# Altium integrated library MCU2.IntLib: 40 symbols
Pins are listed as number, name and electrical type; pins without a type are passive.

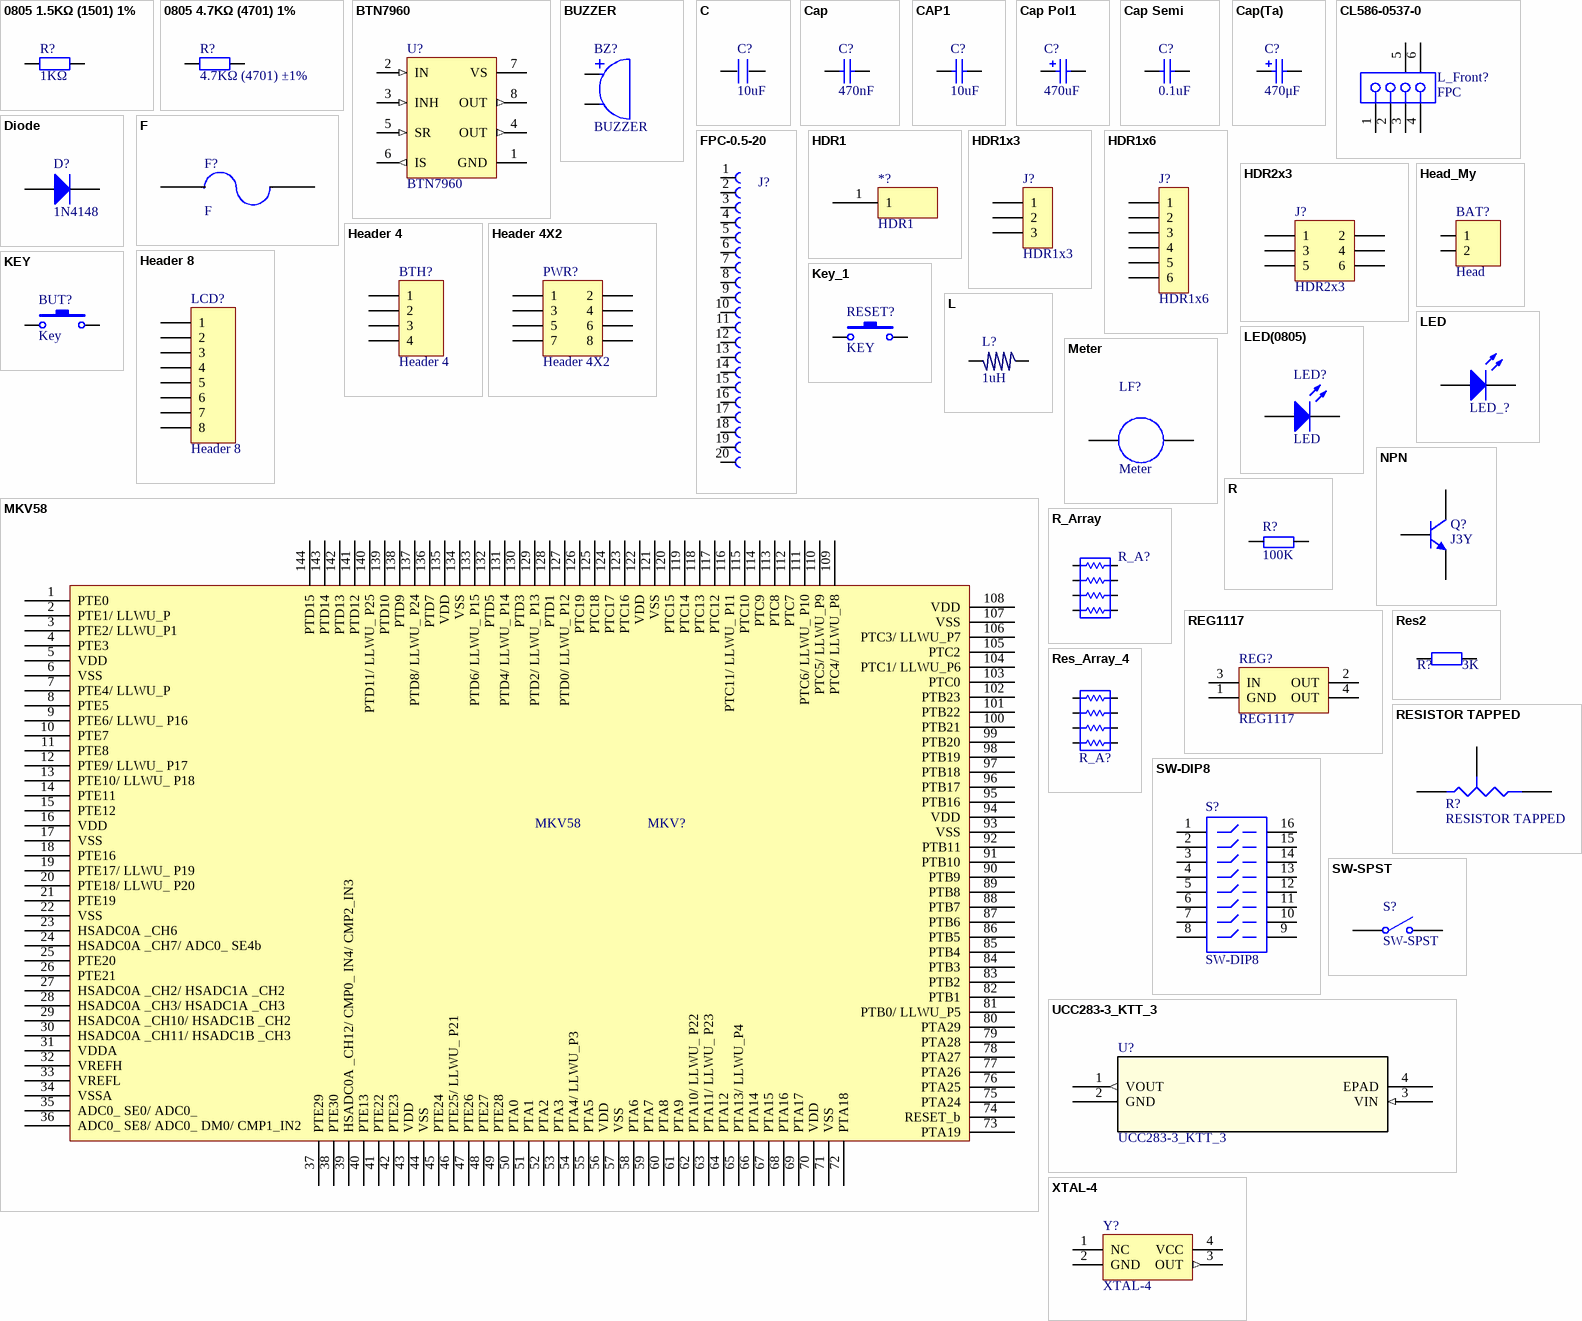
[diagram p0: symbols 0805 1.5KΩ (1501) 1% to XTAL-4]

## 0805 1.5KΩ (1501) 1%
designator R?, comment 1KΩ
贴片电阻; ComponentLink1Description: 供应商链接; ComponentLink1URL: http://www.szlcsc.com/product/details_4717.html; Package: 0805; Supplier: LC; SuppliersPartNumber: C4310
footprint 0805_R
pins: 1, 2

## 0805 4.7KΩ (4701) 1%
designator R?, comment 4.7KΩ (4701) ±1%
贴片电阻; ComponentLink1Description: 供应商链接; ComponentLink1URL: http://www.szlcsc.com/product/details_18361.html; Package: 0805; Supplier: LC; SuppliersPartNumber: C17673
footprint 0805_R
pins: 1, 2

## BTN7960
designator U?
footprint TO-263-7
pins: 1 GND (power), 2 IN (in), 3 INH (in), 4 OUT (out), 5 SR (in), 6 IS (out), 7 VS (power), 8 OUT (out)

## BUZZER
designator BZ?
footprint BUZZER-D12.0X8.5-6.5-0.8 (Buzzer)
pins: 1, 2

## C
designator C?, comment 10uF
footprint 0805_C
footprint CC5.08 (CAP0.1)
footprint CC4.572 (222/332)
footprint 1206
footprint 1210
footprint CC6.096
footprint CC7.62
footprint CVAR (4MM*6.6MM)
footprint C 5.08    7.5mm x4.5mm
footprint C  P5-7-10  W=4mm (P5/P7/P10      W=4mm)
footprint C  P5-7-10  W=6mm (P5/P7/P10      W=6mm)
footprint C  P5-7-10  W=9mm (P5/P7/P10      W=9mm)
footprint 0402
footprint 1218
footprint 2010
footprint 2512
footprint 0603P
pins: 1, 2

## Cap
designator C?  value 470nF  (hidden comment: Cap)
Capacitor; Published: 8-Jun-2000; LatestRevisionDate: 17-Jul-2002; LatestRevisionNote: Re-released for DXP Platform.; PackageReference: RAD-0.3; Publisher: Altium Limited
simulation model CAP (Capacitor)
signal-integrity model Cap
footprint 0805_C
pins: 1, 2

## CAP1
designator C?, comment value 10uF  (hidden comment: 0.1uf)
footprint 0805
pins: 1, 2

## Cap Pol1
designator C?, comment 470uF
Polarized Capacitor (Radial); Published: 8-Jun-2000; LatestRevisionDate: 17-Jul-2002; LatestRevisionNote: Re-released for DXP Platform.; PackageReference: RB7.6-15; Publisher: Altium Limited; PackageDescription: Polarized Capacitor (Radial); 2 Leads
footprint SMD-EC-F8
pins: 1, 2
1 alternate drawing of the same symbol

## Cap Semi
designator C?  value 0.1uF  (hidden comment: Cap Semi)
Capacitor (Semiconductor SIM Model); Published: 8-Jun-2000; Revision: July-2002: Re-released for DXP Platform.; Publisher: Altium Limited
footprint CC3216-1206 (Chip Capacitor; Body 3.2 x 1.6 mm (LxW typ))
simulation model CAP (Semiconductor Capacitor)
signal-integrity model Cap Semi
footprint CC1310-0504
footprint 0805
footprint CC1005-0402
footprint CC3225-1210
pins: 1, 2

## Cap(Ta)
designator C?, comment 470μF
footprint CASE C6032
footprint Case B3528
footprint CASE C6032
pins: 1, 2

## CL586-0537-0
designator L_Front?, comment FPC
FH12 Series, "Flip-Lock" SMT/ZIF Connector - 1.0mm Spaced Bottom Eccentric Contact; Positions: 4; ContactMaterial: Phosphor Bronze; Current: 0.5A; PCB_Layout: Complies with manufacturer's recommendation.; Note: Pad dimensions follow nominal values, Suitable for Wave Soldering, Adjust for Re-flow.; Published: 17-Jul-2002; DatasheetDocument: 13-Nov-2000; PackageDocument: 13-Nov-2000; PackageReference: FH12-10(4)SA-1SH; Publisher: Altium Limited; ComponentLink1Description: Manufacturer Link; ComponentLink1URL: http://www.hiroseusa.com/; ComponentLink2Description: Datasheet; ComponentLink2URL: http://www.hirose.co.jp/cataloge_hp/e58605370.pdf
footprint FH12-10(4)SA-1SH
signal-integrity model FH12
pins: 1, 2, 3, 4, 5 MH1, 6 MH2

## Diode
designator D?, comment 1N4148
Published: 8-Jun-2000; LatestRevisionDate: 17-Jul-2002; LatestRevisionNote: Re-released for DXP Platform.; PackageDocument: Sep-1996; Publisher: Altium Limited; Code_JEDEC: DO-214-AB
footprint 1N4148
footprint 1206-D
footprint 1812-D
footprint D0.4
footprint D0.7
footprint DO-204AL (Diode, Axial; Body 5.2 x 2.7 mm (LxDia. max), Lead Dia. 0.86 mm (max))
footprint DO-204AR (Diode, Axial; Body 9.5 x 6.4 mm (LxDia. max), Lead Dia. 1.32 mm (max))
pins: 1 A, 2 K
2 alternate drawings of the same symbol

## F
designator F?
footprint 0805_R
pins: 1 0, 2 1

## FPC-0.5-20
designator J?
WR-FPC 0.5mm ZIF Connector Bottom 20pin; MF: Wurth Electronics; MP: 68712014522; Price: None; Package: None; Availability: Unavailable; SnapEDA_Link: https://www.snapeda.com/parts/68712014522/Wurth%20Electronics%20Inc./view-part/?ref=snap; Value: *
footprint *68712014522
pins: 1, 2, 3, 4, 5, 6, 7, 8, 9, 10, 11, 12, 13, 14, 15, 16, 17, 18, 19, 20

## HDR1
designator *?
footprint HDR1 (Connector; Header; 1 Position)
pins: 1

## HDR1x3
designator J?
Connector
footprint PIN-3-2.54-1.0 (Pin Header)
footprint PIN-3-2.0-0.8 (Pin Header)
footprint PH-3 (Pin Header)
footprint XH-3 (Pin Header)
footprint 5.08-3 (Pin Header)
footprint PH-3-SIDE (Pin Header, Side entry)
footprint PH-3-SIDE-SMD (Pin Header, Side entry, SMD)
footprint XH-3-SIDE (Pin Header, Side entry)
pins: 1, 2, 3

## HDR1x6
designator J?
Connector
footprint PIN-6-2.54-1.0 (Pin Header)
footprint PIN-6-2.0-0.8 (Pin Header)
footprint PH-6 (Pin Header)
footprint XH-6 (Pin Header)
footprint 5.08-6 (Pin Header)
footprint PH-6-SIDE (Pin Header, Side entry)
footprint PH-6-SIDE-SMD (Pin Header, Side entry, SMD)
footprint XH-6-SIDE (Pin Header, Side entry)
pins: 1, 2, 3, 4, 5, 6

## HDR2x3
designator J?
Connector
footprint PIN-2x3-2.54-1.0 (Pin Header)
footprint PIN-2X3-2.0-0.8 (Pin Header)
footprint SOCKET-2x3-2.54-1.0 (Socket)
pins: 1, 2, 3, 4, 5, 6

## Head_My
designator BAT?, comment Head
footprint Head_Small
pins: 1, 2

## Header 4
designator BTH?
Header, 4-Pin; LatestRevisionDate: 17-Jul-2002; LatestRevisionNote: Re-released for DXP Platform.; Publisher: Altium Limited
footprint HDR1X4
signal-integrity model Connector
pins: 1, 2, 3, 4

## Header 4X2
designator PWR?
Header, 4-Pin, Dual row; LatestRevisionDate: 17-Jul-2002; LatestRevisionNote: Re-released for DXP Platform.; Publisher: Altium Limited
footprint HDR2X4 (Connector; Header; 4x2 Position)
signal-integrity model Connector
pins: 1, 2, 3, 4, 5, 6, 7, 8

## Header 8
designator LCD?
Header, 8-Pin; LatestRevisionDate: 17-Jul-2002; LatestRevisionNote: Re-released for DXP Platform.; Publisher: Altium Limited
footprint HDR1X8
signal-integrity model Connector
pins: 1, 2, 3, 4, 5, 6, 7, 8

## KEY
designator BUT?, comment Key
footprint Key_PB
pins: 1, 2

## Key_1
designator RESET?, comment KEY
footprint Key_PB
footprint Key_4_DIP
pins: 1, 2

## L
designator L?, comment 1uH
footprint L3A (L)
footprint L4.7
footprint L_USER (SELF_DEF)
footprint L10 (10mH)
footprint SMD7850
footprint 0805
footprint 1206
footprint L_SOPL (L_LARGE)
footprint L_CD43 (4mm*4mm)
footprint 0603P
footprint L  9mm x20mm
footprint Lx2 DIP (L=17.5mm  W=15mm  R= 8mm)
pins: 1, 2

## LED
designator LED_?  (value not drawn)
footprint LED
pins: 1 A, 2 K

## LED(0805)
designator LED?, comment LED
footprint LED(0805)
pins: 1 A, 2 K

## Meter
designator LF?
Indicating Instrument; Note: Place a "letter" into the symbol to show the function of the meter or instrument; Published: 24-Mar-1999; LatestRevisionDate: 17-Jul-2002; LatestRevisionNote: Re-released for DXP Platform.; PackageReference: RAD-0.1; Publisher: Altium Limited
footprint 电机
footprint Head_Small
pins: 1, 2

## MKV58
designator MKV?
footprint LQFP144
pins: 1 PTE0, 2 PTE1/ LLWU_P, 3 PTE2/ LLWU_P1, 4 PTE3, 5 VDD, 6 VSS, 7 PTE4/ LLWU_P, 8 PTE5, 9 PTE6/ LLWU_ P16, 10 PTE7, 11 PTE8, 12 PTE9/ LLWU_ P17, 13 PTE10/ LLWU_ P18, 14 PTE11, 15 PTE12, 16 VDD, 17 VSS, 18 PTE16, 19 PTE17/ LLWU_ P19, 20 PTE18/ LLWU_ P20, 21 PTE19, 22 VSS, 23 HSADC0A _CH6, 24 HSADC0A _CH7/ ADC0_ SE4b, 25 PTE20, 26 PTE21, 27 HSADC0A _CH2/ HSADC1A _CH2, 28 HSADC0A _CH3/ HSADC1A _CH3, 29 HSADC0A _CH10/ HSADC1B _CH2, 30 HSADC0A _CH11/ HSADC1B _CH3, 31 VDDA, 32 VREFH, 33 VREFL, 34 VSSA, 35 ADC0_ SE0/ ADC0_, 36 ADC0_ SE8/ ADC0_ DM0/ CMP1_IN2, 37 PTE29, 38 PTE30, 39 HSADC0A _CH12/ CMP0_ IN4/ CMP2_IN3, 40 PTE13, 41 PTE22, 42 PTE23, 43 VDD, 44 VSS, 45 PTE24, 46 PTE25/ LLWU_ P21, 47 PTE26, 48 PTE27, 49 PTE28, 50 PTA0, 51 PTA1, 52 PTA2, 53 PTA3, 54 PTA4/ LLWU_P3, 55 PTA5, 56 VDD, 57 VSS, 58 PTA6, 59 PTA7, 60 PTA8, 61 PTA9, 62 PTA10/ LLWU_ P22, 63 PTA11/ LLWU_ P23, 64 PTA12, 65 PTA13/ LLWU_P4, 66 PTA14, 67 PTA15, 68 PTA16, 69 PTA17, 70 VDD, 71 VSS, 72 PTA18, 73 PTA19, 74 RESET_b, 75 PTA24, 76 PTA25, 77 PTA26, 78 PTA27, 79 PTA28, 80 PTA29, 81 PTB0/ LLWU_P5, 82 PTB1, 83 PTB2, 84 PTB3, 85 PTB4, 86 PTB5, 87 PTB6, 88 PTB7, 89 PTB8, 90 PTB9, 91 PTB10, 92 PTB11, 93 VSS, 94 VDD, 95 PTB16, 96 PTB17, 97 PTB18, 98 PTB19, 99 PTB20, 100 PTB21, 101 PTB22, 102 PTB23, 103 PTC0, 104 PTC1/ LLWU_P6, 105 PTC2, 106 PTC3/ LLWU_P7, 107 VSS, 108 VDD, 109 PTC4/ LLWU_P8, 110 PTC5/ LLWU_P9, 111 PTC6/ LLWU_ P10, 112 PTC7, 113 PTC8, 114 PTC9, 115 PTC10, 116 PTC11/ LLWU_ P11, 117 PTC12, 118 PTC13, 119 PTC14, 120 PTC15, 121 VSS, 122 VDD, 123 PTC16, 124 PTC17, 125 PTC18, 126 PTC19, 127 PTD0/ LLWU_ P12, 128 PTD1, 129 PTD2/ LLWU_ P13, 130 PTD3, 131 PTD4/ LLWU_ P14, 132 PTD5, 133 PTD6/ LLWU_ P15, 134 VSS, 135 VDD, 136 PTD7, 137 PTD8/ LLWU_ P24, 138 PTD9, 139 PTD10, 140 PTD11/ LLWU_ P25, 141 PTD12, 142 PTD13, 143 PTD14, 144 PTD15

## NPN
designator Q?, comment J3Y
NPN Bipolar Transistor; Published: 8-Jun-2000; LatestRevisionDate: 17-Jul-2002; LatestRevisionNote: Re-released for DXP Platform.; PackageReference: TO-226; Publisher: Altium Limited; Code_JEDEC: TO-226-AA
footprint SOT23; pin to pad 1>3 2>1 3>2
simulation model NPN
signal-integrity model NPN
pins: 1 C, 2 B, 3 E

## R
designator R?, comment 100K
footprint 0805
footprint 0603P
footprint RL (10o/0.7uH)
footprint R16.0 (RX/1W)
footprint 1206
footprint 1210
footprint R20.0 (RX/2W)
footprint R10.16 (STD)
footprint RLN9 (13.5mm*5.1mm)
footprint 1218
footprint 2010
footprint 2512
footprint 0402
pins: 1, 2

## R_Array
designator R_A?, comment Res Array  (value not drawn)
footprint R_Array
pins: 1, 2, 3, 4, 5, 6, 7, 8

## REG1117
designator REG?
footprint SOT-223
pins: 1 GND, 2 OUT (power), 3 IN, 4 OUT (power)

## Res2
designator R?  value 3K  (hidden comment: Res2)
Resistor; Published: 8-Jun-2000; LatestRevisionDate: 17-Jul-2002; LatestRevisionNote: Re-released for DXP Platform.; PackageReference: AXIAL-0.4; Publisher: Altium Limited
simulation model RESISTOR (Resistor)
signal-integrity model Res
footprint 2012[0805] (Chip Resistor; Body 2.0 x 1.3 mm (LxW typ))
footprint 0805_R
pins: 1, 2

## Res_Array_4
designator R_A?, comment Resistor Array  (value not drawn)
Resistor; Value: 200; Published: 8-Jun-2000; LatestRevisionDate: 17-Jul-2002; LatestRevisionNote: Re-released for DXP Platform.; PackageReference: AXIAL-0.3; Publisher: Altium Limited; PackageDescription: Axial Device, Thru-Hole; 2 Leads; 0.3 in Pin Spacing
footprint Res Array
pins: 1, 2, 3, 4, 5, 6, 7, 8

## RESISTOR TAPPED
designator R?
footprint 0932电位器
pins: 1 A, 2 B, 3 TAP

## SW-DIP8
designator S?
4009 Series DIP Switch, Raised actuator; Published: 24-Mar-1999; LatestRevisionDate: 17-Dec-2003; LatestRevisionNote: PCB Footprint replaced.; PackageReference: DIP-16-KEY; Publisher: Altium Limited; PackageDescription: DIP; 16 Leads; Row Spacing 7.62 mm; Pitch 2.54 mm; ComponentLink1Description: Manufacturer Link; ComponentLink1URL: http://www.oupiin.com/prodindx.html#Headers
footprint DIP-16-KEY (DIP; 16 Leads; Row Spacing 7.62 mm; Pitch 2.54 mm)
simulation model dpsw8 (Spice Subcircuit)
pins: 1, 2, 3, 4, 5, 6, 7, 8, 9, 10, 11, 12, 13, 14, 15, 16

## SW-SPST
designator S?
Single-Pole, Single-Throw Switch; Published: 24-Mar-1999; LatestRevisionDate: 17-Jul-2002; LatestRevisionNote: Re-released for DXP Platform.; PackageReference: SPST-2; Publisher: Altium Limited; PackageDescription: Switch; 2 Leads
footprint Switch_N
pins: 1 COMMON, 2 NO

## UCC283-3_KTT_3
designator U?
Imported; Vendor: Texas Instruments; PACKAGE_DESIGNATOR: KTT; PIN_COUNT: 3; FAMILY_NAME: SINGLE CHANNEL LDO; INDUSTRY_STD_PKG_TYPE: DDPAK/TO-263; Manufacturer_Part_Number: ucc283-3_ktt_3; GENERIC_PART_NUMBER: UCC283-3; Manufacturer: Texas Instruments; Datasheet_URL: http://www.ti.com/lit/gpn/UCC283-3; Value: Value; Type: Type; RefDes: RefDes
footprint KTT3_6P22X6P6
footprint KTT3_6P22X6P6-L
footprint KTT3_6P22X6P6-M
footprint TO-263-3 (TO-263, 3PIN)
pins: 1 VOUT (out), 2 GND (power), 3 VIN (in), 4 EPAD

## XTAL-4
designator Y?
Oscillator
footprint XTAL-5.0X3.2 (Oscillator)
pins: 1 NC, 2 GND (power), 3 OUT (out), 4 VCC (power)